# EAGLE library part MIC39101 (library IC)
Digi-Key Part Number 576-1174-ND Manufacturer Part Number MIC39101-5.0YM Description IC REG LDO 1A 5.0V 8SOIC Regulator Topology Positive Fixed Voltage - Output 5V Voltage - Input Up to 16V Voltage - Dropout (Typical) 0.41V @ 1A Number of Regulators 1 Current - Output 1A (Min) Current - Limit (Min) - Operating Temperature -40°C ~ 125°C Mounting Type Surface Mount Package / Case 8-SOIC (0.154", 3.90mm Width) Supplier Device Package 8-SOIC The MIC39100, MIC39101, and MIC39102 are 1A low-dropout linear voltage regulators that provide low-voltage, high-current output from an extremely small package. Utilizing Micrel?s proprietary Super ?eta PNP? pass element, the MIC39100/1/2 offers extremely low dropout (typically 410mV at 1A) and low ground current (typically 11mA at 1A).
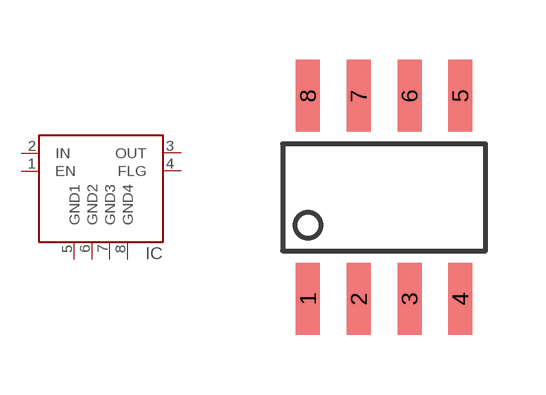
[diagram p187: symbol with the pads of SOIC8; footprint SOIC8]

Designator prefix IC

## MIC39101-SOIC8  [SOIC8]
1  EN
2  IN
3  OUT
4  FLG
5  GND1
6  GND2
7  GND3
8  GND4

## Footprint SOIC8 (pad centres in mm)
8 pin SOIC 150-mil package
smd 0.6 x 1.8: 1 -1.905,-2.54; 2 -0.635,-2.54; 3 0.635,-2.54; 4 1.905,-2.54; 5 1.905,2.54; 6 0.635,2.54; 7 -0.635,2.54; 8 -1.905,2.54